# Altium footprint library Anderson Power 30Amp.PcbLib: 1 footprints
Each footprint in its own frame and in the unit in brackets; x right, y up, seen from the top. Pads: shape width x height; smd on the part's side, far side on the other; paste and mask are expansions set on the pad; w line width, h text height; cw(c..) or ccw(c..) is an arc to the next point about the centre after c.
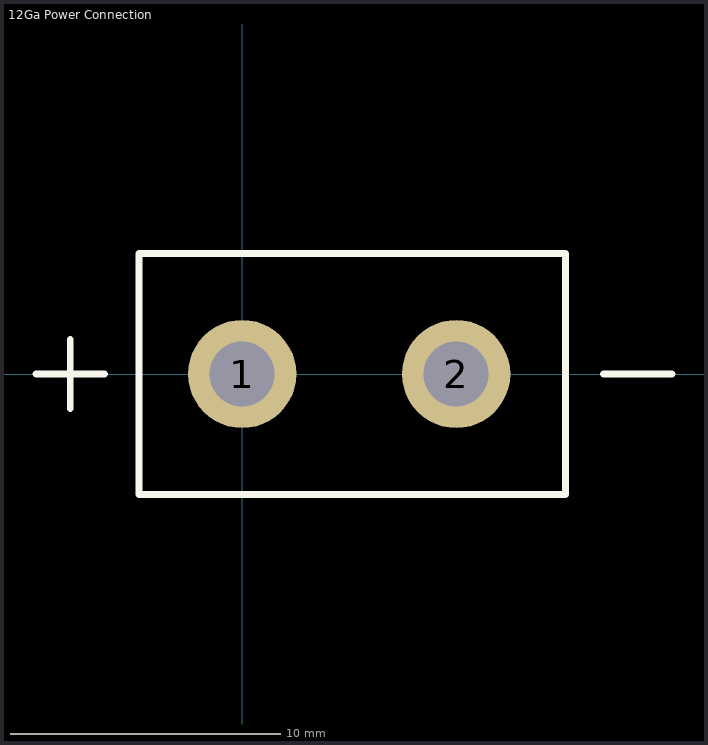
[diagram p0: the footprint, top view; thin cyan lines are the x and y axes]

## 12Ga Power Connection [mm]
pads (2):
  round 4 hole 2.4: 1(0,0) 2(7.9,0)
Top Overlay:
  lines w0.254: -7.62,0 -5.08,0 ; -6.35,-1.27 -6.35,1.27 ; 13.335,0 15.875,0 ; -3.81,-4.445 -3.81,4.445 11.938,4.445 11.938,-4.445 -3.81,-4.445